# EAGLE library part RF430CL330H (library RatDBS)
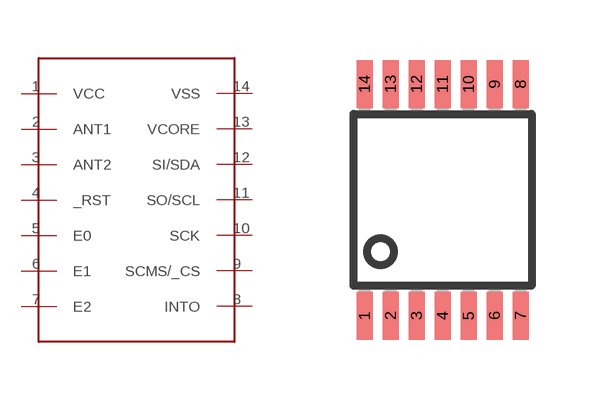
[diagram p3: symbol with the pads of PW_R-PDSO-G14; footprint PW_R-PDSO-G14]

Designator prefix -

## RF430CL330H  [PW_R-PDSO-G14]
1  VCC  pwr
2  ANT1
3  ANT2
4  _RST
5  E0
6  E1
7  E2
8  INTO
9  SCMS/_CS
10  SCK
11  SO/SCL
12  SI/SDA
13  VCORE
14  VSS  pwr

## Footprint PW_R-PDSO-G14 (pad centres in mm)
PLASTIC SMALL-OUTLINE PACKAGE SO 14 JEDEC MO-153, PW Type Source: www.ti.com/.. slvs087l.pdf
smd 0.4 x 1.2: 1 -1.95,-2.9; 2 -1.3,-2.9; 3 -0.65,-2.9; 4 0,-2.9; 5 0.65,-2.9; 6 1.3,-2.9; 7 1.95,-2.9; 8 1.95,2.9; 9 1.3,2.9; 10 0.65,2.9; 11 0,2.9; 12 -0.65,2.9; 13 -1.3,2.9; 14 -1.95,2.9